# Altium footprint library CS_footprints.PcbLib: 90 footprints (part 3 of 6)
Each footprint in its own frame and in the unit in brackets; x right, y up, seen from the top. Pads: shape width x height; smd on the part's side, far side on the other; paste and mask are expansions set on the pad; w line width, h text height; cw(c..) or ccw(c..) is an arc to the next point about the centre after c.
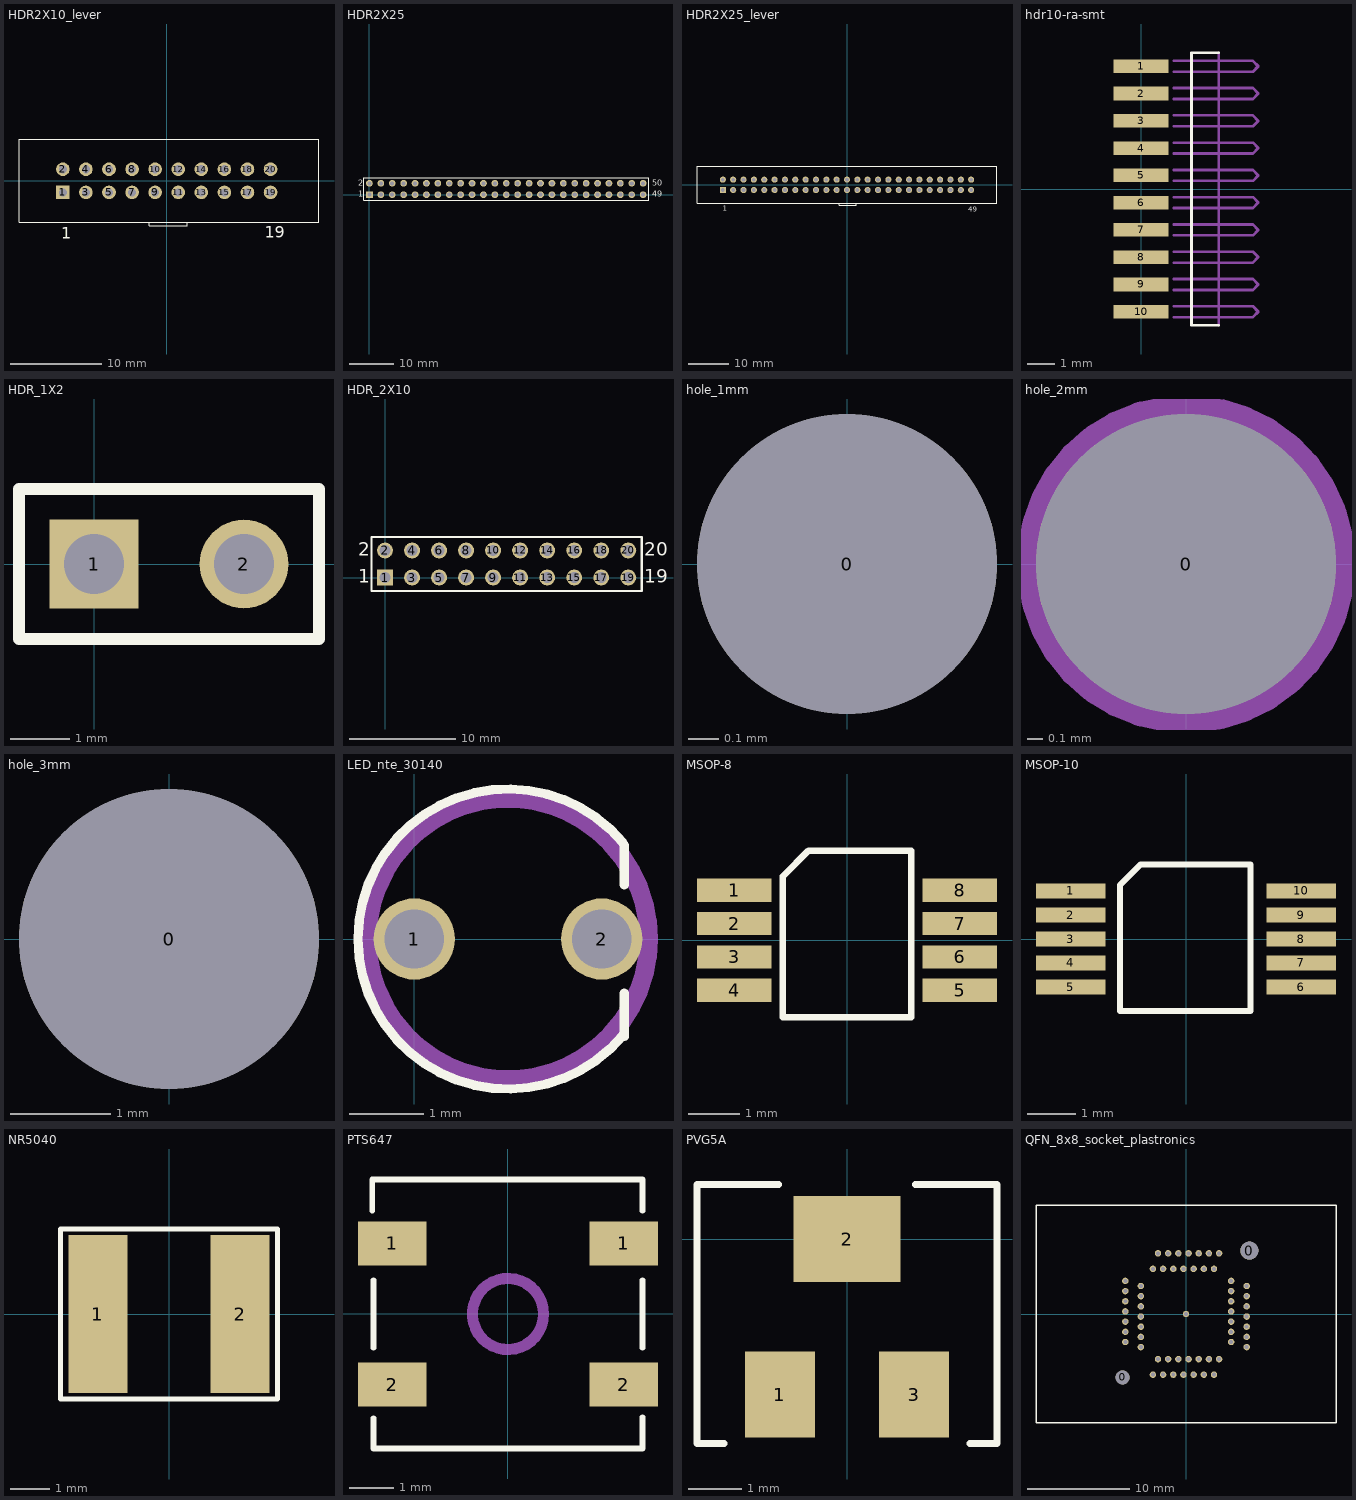
[diagram p2: the footprints below, top view; thin cyan lines are the x and y axes]

## HDR2X10_lever [mm] "Shrouded Header; 10x2 Position; eject latches"
pads (20):
  rect 1.5x1.5 hole 0.9: 1(-11.43,-1.27)
  round 1.5 hole 0.9: 2(-11.43,1.27) 3(-8.89,-1.27) 4(-8.89,1.27) 5(-6.35,-1.27) 6(-6.35,1.27) 7(-3.81,-1.27) 8(-3.81,1.27) 9(-1.27,-1.27) 10(-1.27,1.27) 11(1.27,-1.27) 12(1.27,1.27) 13(3.81,-1.27) 14(3.81,1.27) 15(6.35,-1.27) 16(6.35,1.27) 17(8.89,-1.27) 18(8.89,1.27) 19(11.43,-1.27) 20(11.43,1.27)
Top Overlay:
  lines w0.127: -1.905,-4.597 -1.905,-4.953 0.178,-4.953 ; 0.152,-4.953 2.235,-4.953 2.235,-4.597 ; -16.256,-4.572 16.764,-4.572 16.764,4.572 -16.256,4.572 -16.256,-4.572
  text "1" at -11.608,-6.375 h1.27
  text "19" at 10.77,-6.248 h1.27

## HDR2X25 [mm] "Connector; Header; 25x2 Position"
pads (50):
  rect 1.5x1.5 hole 0.9: 1(0,0)
  round 1.5 hole 0.9: 2(0,2.54) 3(2.54,0) 4(2.54,2.54) 5(5.08,0) 6(5.08,2.54) 7(7.62,0) 8(7.62,2.54) 9(10.16,0) 10(10.16,2.54) 11(12.7,0) 12(12.7,2.54) 13(15.24,0) 14(15.24,2.54) 15(17.78,0) 16(17.78,2.54) 17(20.32,0) 18(20.32,2.54) 19(22.86,0) 20(22.86,2.54) 21(25.4,0) 22(25.4,2.54) 23(27.94,0) 24(27.94,2.54) 25(30.48,0) 26(30.48,2.54) 27(33.02,0) 28(33.02,2.54) 29(35.56,0) 30(35.56,2.54) 31(38.1,0) 32(38.1,2.54) 33(40.64,0) 34(40.64,2.54) 35(43.18,0) 36(43.18,2.54) 37(45.72,0) 38(45.72,2.54) 39(48.26,0) 40(48.26,2.54) 41(50.8,0) 42(50.8,2.54) 43(53.34,0) 44(53.34,2.54) 45(55.88,0) 46(55.88,2.54) 47(58.42,0) 48(58.42,2.54) 49(60.96,0) 50(60.96,2.54)
Top Overlay:
  lines w0.2: -1.27,-1.27 62.23,-1.27 62.23,3.81 -1.27,3.81 -1.27,-1.27
  text "50" at 62.992,2.032 h1.27
  text "49" at 62.992,-0.508 h1.27
  text "1" at -2.54,-0.508 h1.27
  text "2" at -2.54,2.032 h1.27

## HDR2X25_lever [mm] "Shrouded Header; 25x2 Position; eject latches"
pads (50):
  rect 1.5x1.5 hole 0.9: 1(-30.48,-1.27)
  round 1.5 hole 0.9: 2(-30.48,1.27) 3(-27.94,-1.27) 4(-27.94,1.27) 5(-25.4,-1.27) 6(-25.4,1.27) 7(-22.86,-1.27) 8(-22.86,1.27) 9(-20.32,-1.27) 10(-20.32,1.27) 11(-17.78,-1.27) 12(-17.78,1.27) 13(-15.24,-1.27) 14(-15.24,1.27) 15(-12.7,-1.27) 16(-12.7,1.27) 17(-10.16,-1.27) 18(-10.16,1.27) 19(-7.62,-1.27) 20(-7.62,1.27) 21(-5.08,-1.27) 22(-5.08,1.27) 23(-2.54,-1.27) 24(-2.54,1.27) 25(0,-1.27) 26(0,1.27) 27(2.54,-1.27) 28(2.54,1.27) 29(5.08,-1.27) 30(5.08,1.27) 31(7.62,-1.27) 32(7.62,1.27) 33(10.16,-1.27) 34(10.16,1.27) 35(12.7,-1.27) 36(12.7,1.27) 37(15.24,-1.27) 38(15.24,1.27) 39(17.78,-1.27) 40(17.78,1.27) 41(20.32,-1.27) 42(20.32,1.27) 43(22.86,-1.27) 44(22.86,1.27) 45(25.4,-1.27) 46(25.4,1.27) 47(27.94,-1.27) 48(27.94,1.27) 49(30.48,-1.27) 50(30.48,1.27)
Top Overlay:
  lines w0.127: -1.905,-4.597 -1.905,-4.953 0.178,-4.953 ; 0.152,-4.953 2.235,-4.953 2.235,-4.597 ; -36.83,-4.572 -36.83,4.572 36.83,4.572 36.83,-4.572 -36.83,-4.572
  text "49" at 29.718,-6.604 h1.27
  text "1" at -30.48,-6.35 h1.27

## hdr10-ra-smt [mm] "header, 10-pin, right angle, smt, BC034"
pads (10):
  rect 2x0.5 smd: 1(0,4.5) 2(0,3.5) 3(0,2.5) 4(0,1.5) 5(0,0.5) 6(0,-0.5) 7(0,-1.5) 8(0,-2.5) 9(0,-3.5) 10(0,-4.5)
Top Overlay:
  lines w0.102: 2.85,-5 1.85,-5 1.85,5 2.85,5
Assembly Top:
  lines w0.102: 1.2,-4.7 4.1,-4.7 4.3,-4.5 4.1,-4.3 1.2,-4.3 ; 1.2,-3.7 4.1,-3.7 4.3,-3.5 4.1,-3.3 1.2,-3.3 ; 1.2,-2.7 4.1,-2.7 4.3,-2.5 4.1,-2.3 1.2,-2.3 ; 1.2,-1.7 4.1,-1.7 4.3,-1.5 4.1,-1.3 1.2,-1.3 ; 1.2,-0.7 4.1,-0.7 4.3,-0.5 4.1,-0.3 1.2,-0.3 ; 1.2,0.3 4.1,0.3 4.3,0.5 4.1,0.7 1.2,0.7 ; 1.2,1.3 4.1,1.3 4.3,1.5 4.1,1.7 1.2,1.7 ; 1.2,2.3 4.1,2.3 4.3,2.5 4.1,2.7 1.2,2.7 ; 1.2,3.3 4.1,3.3 4.3,3.5 4.1,3.7 1.2,3.7 ; 1.2,4.3 4.1,4.3 4.3,4.5 4.1,4.7 1.2,4.7 ; 2.85,-5 2.85,5

## HDR_1X2 [mm] "Connector; Header; 2 Position"
pads (2):
  rect 1.5x1.5 hole 1.016: 1(0,0)
  round 1.5 hole 1.016: 2(2.54,0)
Top Overlay:
  lines w0.2: -1.27,-1.27 -1.27,1.27 3.81,1.27 3.81,-1.27 -1.27,-1.27

## HDR_2X10 [mm] "Connector; Header; 10x2 Position"
pads (20):
  rect 1.5x1.5 hole 1.016: 1(0,0)
  round 1.5 hole 1.016: 2(0,2.54) 3(2.54,0) 4(2.54,2.54) 5(5.08,0) 6(5.08,2.54) 7(7.62,0) 8(7.62,2.54) 9(10.16,0) 10(10.16,2.54) 11(12.7,0) 12(12.7,2.54) 13(15.24,0) 14(15.24,2.54) 15(17.78,0) 16(17.78,2.54) 17(20.32,0) 18(20.32,2.54) 19(22.86,0) 20(22.86,2.54)
Top Overlay:
  lines w0.2: -1.27,-1.27 0.635,-1.27 24.13,-1.27 24.13,3.81 0.635,3.81 -1.27,3.81 -1.27,-1.27
  text "20" at 24.384,2.032 h1.27
  text "19" at 24.384,-0.508 h1.27
  text "1" at -2.54,-0.508 h1.27
  text "2" at -2.54,2.032 h1.27

## hole_1mm [mm]
pads (1):
  round 1 hole 1 unplated: 0(0,0)

## hole_2mm [mm]
pads (1):
  round 2 hole 2 unplated: 0(0,0)
Assembly Top:
  circle w0.254: c0,0 r1

## hole_3mm [mm]
pads (1):
  round 3 hole 3 unplated: 0(0,0)

## LED_nte_30140 [mm]
pads (2):
  round 1.1 hole 0.8: 1(0,0) 2(2.54,0)
Top Overlay:
  lines w0.127: 2.827,-1.306 cw(c1.27,0) 2.827,1.306 ; 2.845,-1.321 2.845,-0.737 ; 2.845,0.737 2.845,1.27
Assembly Top:
  circle w0.254: c1.27,0 r1.905

## MSOP-8 [mm]
pads (8):
  rect 1.45x0.45 smd mask+0: 1(-2.2,0.975) 2(-2.2,0.325) 3(-2.2,-0.325) 4(-2.2,-0.975) 5(2.2,-0.975) 6(2.2,-0.325) 7(2.2,0.325) 8(2.2,0.975)
Top Overlay:
  lines w0.127: -1.25,-1.5 1.25,-1.5 1.25,1.75 -0.75,1.75 -1.25,1.25 -1.25,-1.5

## MSOP-10 [mm]
pads (10):
  rect 1.45x0.32 smd mask+0: 1(-2.4,1) 2(-2.4,0.5) 3(-2.4,0) 4(-2.4,-0.5) 5(-2.4,-1) 6(2.4,-1) 7(2.4,-0.5) 8(2.4,0) 9(2.4,0.5) 10(2.4,1)
Top Overlay:
  lines w0.127: -1.372,-1.499 1.346,-1.499 1.346,1.549 -0.951,1.549 -1.372,1.128 -1.372,-1.499

## NR5040 [mm] "fixed inductor"
pads (2):
  rect 1.5x4 smd mask+0: 1(-1.8,0) 2(1.8,0)
Top Overlay:
  lines w0.127: -2.743,-2.159 2.743,-2.159 2.743,2.159 -2.743,2.159 -2.743,-2.159

## PTS647 [mm] "switch pushbutton tactile NO smt"
pads (4):
  rect 1.55x1 smd: 1(-2.625,1.6) 1(2.625,1.6) 2(-2.625,-1.6) 2(2.625,-1.6)
Top Overlay:
  lines w0.127: -3.073,2.337 -3.073,3.048 3.048,3.048 3.048,2.337 ; -3.048,-2.362 -3.048,-3.048 3.048,-3.048 3.048,-2.337 ; -3.048,-0.762 -3.048,0.762 ; 3.048,-0.762 3.048,0.762
Assembly Top:
  circle w0.254: c0,0 r0.806

## PVG5A [mm] "bourns trimpot surface mount PVG5A series"
pads (3):
  rect 1.3x1.6 smd: 1(-1.25,-2.9) 3(1.25,-2.9)
  rect 2x1.6 smd: 2(0,0)
Top Overlay:
  lines w0.127: -2.286,-3.81 -2.794,-3.81 -2.794,1.016 -1.27,1.016 ; 1.27,1.016 2.794,1.016 2.794,-3.81 2.286,-3.81

## QFN_8x8_socket_plastronics [mil]
pads (59):
  round 54 hole 54 unplated mask+1.97: 0(-245,-245)
  round 25 hole 15 unplated mask+1.97: 0(0,0) 1(127.95,234.5) 2(108.25,174.5) 3(88.5,234.5) 4(68.9,174.5) 5(49.2,234.5) 6(29.5,174.5) 7(9.84,234.5) 8(-9.84,174.5) 9(-29.5,234.5) 10(-49.2,174.5) 11(-68.9,234.5) 12(-88.6,174.5) 13(-108.3,234.5) 14(-128,174.5) 15(-234.5,127.95) 16(-174.5,108.25) 17(-234.5,88.5) 18(-174.5,68.9) 19(-234.5,49.2) 20(-174.5,29.5) 21(-234.5,9.84) 22(-174.5,-9.84) 23(-234.5,-29.5) 24(-174.5,-49.2) 25(-234.5,-68.9) 26(-174.5,-88.6) 27(-234.5,-108.3) 28(-174.5,-128) 29(-127.95,-234.5) 30(-108.25,-174.5) 31(-88.5,-234.5) 32(-68.9,-174.5) 33(-49.2,-234.5) 34(-29.5,-174.5) 35(-9.84,-234.5) 36(9.84,-174.5) 37(29.5,-234.5) 38(49.2,-174.5) 39(68.9,-234.5) 40(88.6,-174.5) 41(108.3,-234.5) 42(128,-174.5) 43(234.5,-127.95) 44(174.5,-108.25) 45(234.5,-88.5) 46(174.5,-68.9) 47(234.5,-49.2) 48(174.5,-29.5) 49(234.5,-9.84) 50(174.5,9.84) 51(234.5,29.5) 52(174.5,49.2) 53(234.5,68.9) 54(174.5,88.6) 55(234.5,108.3) 56(174.5,128)
  round 70 hole 70 unplated mask+1.97: 0(245,245)
Top Overlay:
  lines w5: -580,-420 580,-420 580,420 -580,420 -580,-420